# Altium footprint library C_SMD_SIZE_B.PcbLib: 1 footprints
Each footprint in its own frame and in the unit in brackets; x right, y up, seen from the top. Pads: shape width x height; smd on the part's side, far side on the other; paste and mask are expansions set on the pad; w line width, h text height; cw(c..) or ccw(c..) is an arc to the next point about the centre after c.
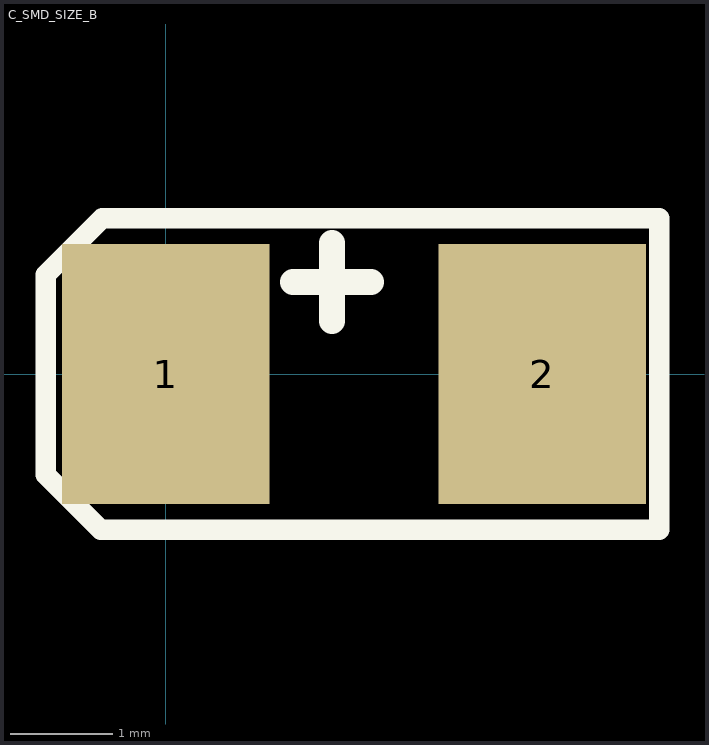
[diagram p0: the footprint, top view; thin cyan lines are the x and y axes]

## C_SMD_SIZE_B [mil]
pads (2):
  rect 80x100 smd: 1(0,0) 2(145,0)
Top Overlay:
  lines w7.87: -46.18,-38.82 -46.18,38.19 -24.37,60 190.04,60 190.04,-60 -25,-60 -46.18,-38.82
  lines w10: 49.06,35.43 79.06,35.43 ; 64.06,20.43 64.06,50.43
3D body: height 75, standoff 0, extent 5,-55 145,55